# EAGLE library part LPC2132 (library philips_lpc21xx)
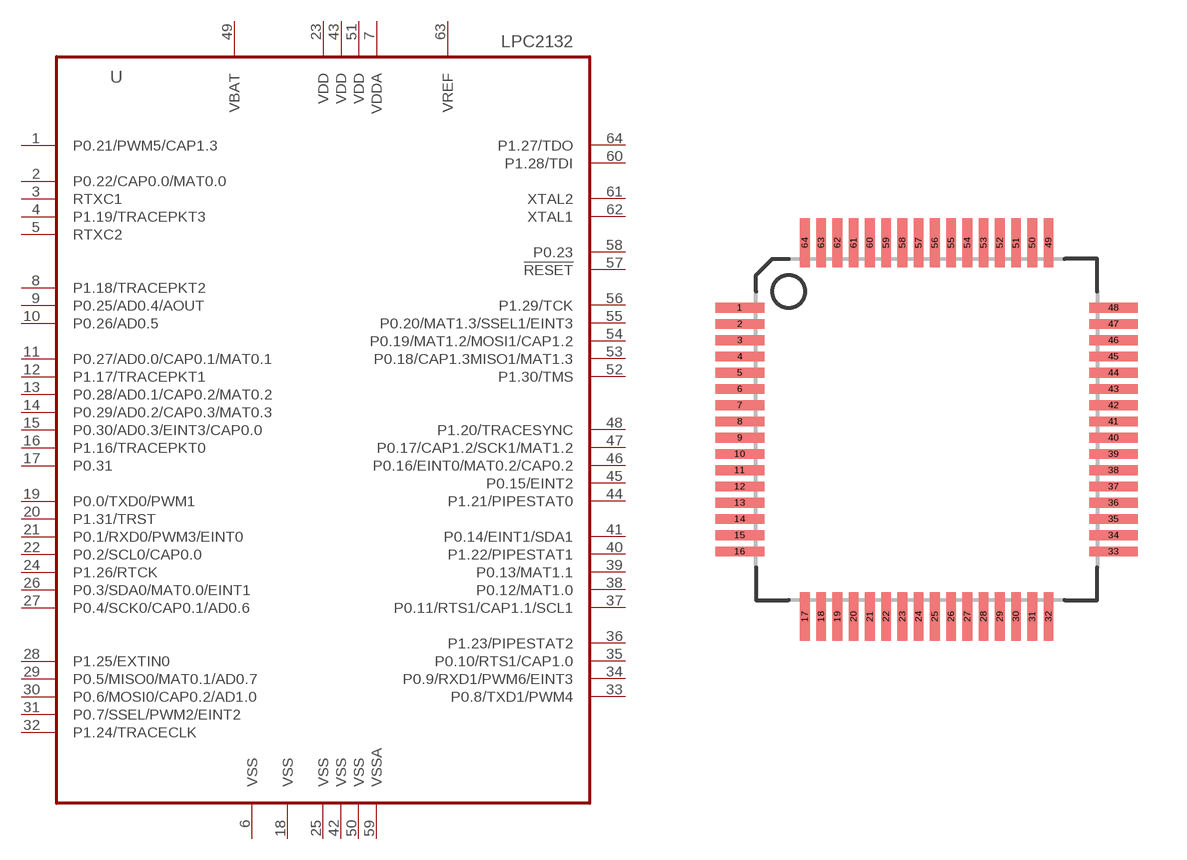
[diagram p1: symbol with the pads of TQFP64; footprint TQFP64]

Designator prefix -

## LPC2132  [TQFP64]
1  P0.21/PWM5/CAP1.3
2  P0.22/CAP0.0/MAT0.0
3  RTXC1
4  P1.19/TRACEPKT3
5  RTXC2
6  VSS
7  VDDA
8  P1.18/TRACEPKT2
9  P0.25/AD0.4/AOUT
10  P0.26/AD0.5
11  P0.27/AD0.0/CAP0.1/MAT0.1
12  P1.17/TRACEPKT1
13  P0.28/AD0.1/CAP0.2/MAT0.2
14  P0.29/AD0.2/CAP0.3/MAT0.3
15  P0.30/AD0.3/EINT3/CAP0.0
16  P1.16/TRACEPKT0
17  P0.31
18  VSS
19  P0.0/TXD0/PWM1
20  P1.31/TRST
21  P0.1/RXD0/PWM3/EINT0
22  P0.2/SCL0/CAP0.0
23  VDD
24  P1.26/RTCK
25  VSS
26  P0.3/SDA0/MAT0.0/EINT1
27  P0.4/SCK0/CAP0.1/AD0.6
28  P1.25/EXTIN0
29  P0.5/MISO0/MAT0.1/AD0.7
30  P0.6/MOSI0/CAP0.2/AD1.0
31  P0.7/SSEL/PWM2/EINT2
32  P1.24/TRACECLK
33  P0.8/TXD1/PWM4
34  P0.9/RXD1/PWM6/EINT3
35  P0.10/RTS1/CAP1.0
36  P1.23/PIPESTAT2
37  P0.11/RTS1/CAP1.1/SCL1
38  P0.12/MAT1.0
39  P0.13/MAT1.1
40  P1.22/PIPESTAT1
41  P0.14/EINT1/SDA1
42  VSS
43  VDD
44  P1.21/PIPESTAT0
45  P0.15/EINT2
46  P0.16/EINT0/MAT0.2/CAP0.2
47  P0.17/CAP1.2/SCK1/MAT1.2
48  P1.20/TRACESYNC
49  VBAT
50  VSS
51  VDD
52  P1.30/TMS
53  P0.18/CAP1.3MISO1/MAT1.3
54  P0.19/MAT1.2/MOSI1/CAP1.2
55  P0.20/MAT1.3/SSEL1/EINT3
56  P1.29/TCK
57  !RESET
58  P0.23
59  VSSA
60  P1.28/TDI
61  XTAL2
62  XTAL1
63  VREF
64  P1.27/TDO

## Footprint TQFP64 (pad centres in mm)
64 PIN THIN QUAD FLATPACK
smd 1.5 x 0.3: 1 -5.5,3.5; 2 -5.5,3; 3 -5.5,2.5; 4 -5.5,2; 5 -5.5,1.5; 6 -5.5,1; 7 -5.5,0.5; 8 -5.5,0; 9 -5.5,-0.5; 10 -5.5,-1; 11 -5.5,-1.5; 12 -5.5,-2; 13 -5.5,-2.5; 14 -5.5,-3; 15 -5.5,-3.5; 16 -5.5,-4; 33 6,-4; 34 6,-3.5; 35 6,-3; 36 6,-2.5; 37 6,-2; 38 6,-1.5; 39 6,-1; 40 6,-0.5; 41 6,0; 42 6,0.5; 43 6,1; 44 6,1.5; 45 6,2; 46 6,2.5; 47 6,3; 48 6,3.5
smd 0.3 x 1.5: 17 -3.5,-6; 18 -3,-6; 19 -2.5,-6; 20 -2,-6; 21 -1.5,-6; 22 -1,-6; 23 -0.5,-6; 24 0,-6; 25 0.5,-6; 26 1,-6; 27 1.5,-6; 28 2,-6; 29 2.5,-6; 30 3,-6; 31 3.5,-6; 32 4,-6; 49 4,5.5; 50 3.5,5.5; 51 3,5.5; 52 2.5,5.5; 53 2,5.5; 54 1.5,5.5; 55 1,5.5; 56 0.5,5.5; 57 0,5.5; 58 -0.5,5.5; 59 -1,5.5; 60 -1.5,5.5; 61 -2,5.5; 62 -2.5,5.5; 63 -3,5.5; 64 -3.5,5.5